# Altium footprint library PCB - LEADED - DO-219AB.PCBLIB: 1 footprints
Each footprint in its own frame and in the unit in brackets; x right, y up, seen from the top. Pads: shape width x height; smd on the part's side, far side on the other; paste and mask are expansions set on the pad; w line width, h text height; cw(c..) or ccw(c..) is an arc to the next point about the centre after c.
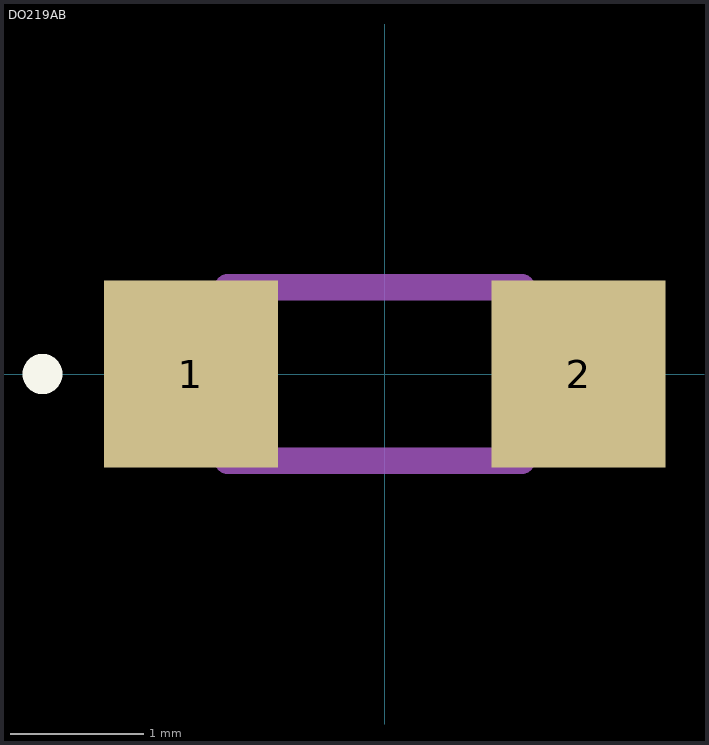
[diagram p0: the footprint, top view; thin cyan lines are the x and y axes]

## DO219AB [mm]
pads (2):
  rect 1.3x1.4 smd: 1(-1.45,0) 2(1.45,0)
Top Overlay:
  lines w0.2: -2.611,0 ccw(c-2.561,0) -2.511,0 ; -2.611,0 cw(c-2.561,0) -2.511,0 ; -2.611,0 ccw(c-2.561,0) -2.511,0
Top Value (Mech13):
  lines w0.2: -1.175,-0.65 -1.175,0.65 1.025,0.65 1.025,-0.65 -1.175,-0.65
3D body "MSE1PJHM3_89A.stp": height 0.83, standoff 0, extent -1.615,-0.65 1.495,0.65